# Altium schematic symbol library LM61460-Q1.SchLib: 1 symbol
Pins are listed as number, name and electrical type; pins without a type are passive.

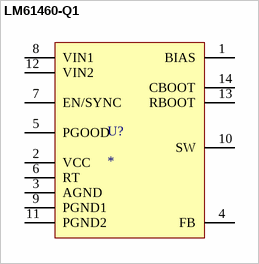
[diagram p0: symbol LM61460-Q1]

## LM61460-Q1
designator U?
pins: 1 BIAS, 2 VCC, 3 AGND, 4 FB, 5 PGOOD, 6 RT, 7 EN/SYNC, 8 VIN1, 9 PGND1, 10 SW, 11 PGND2, 12 VIN2, 13 RBOOT, 14 CBOOT